# Altium footprint library Connector - SD.PcbLib: 3 footprints
Each footprint in its own frame and in the unit in brackets; x right, y up, seen from the top. Pads: shape width x height; smd on the part's side, far side on the other; paste and mask are expansions set on the pad; w line width, h text height; cw(c..) or ccw(c..) is an arc to the next point about the centre after c.
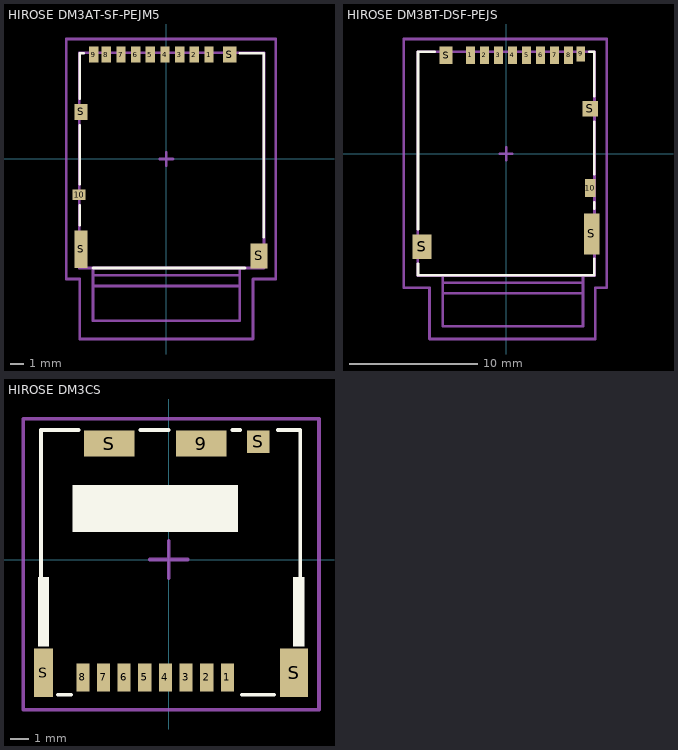
[diagram p0: the footprints below, top view; thin cyan lines are the x and y axes]

## HIROSE DM3AT-SF-PEJM5 [mm]
height 1.68
pads (14):
  rect 0.7x1.2 smd: 1(3.2,7.825) 2(2.1,7.825) 3(1,7.825) 4(-0.1,7.825) 5(-1.2,7.825) 6(-2.3,7.825) 7(-3.4,7.825) 8(-4.5,7.825) 9(-5.45,7.825)
  rect 1x0.8 smd: 10(-6.55,-2.675)
  rect 1x2.8 smd: S(-6.4,-6.775)
  rect 1x1.2 smd: S(-6.4,3.525) S(4.75,7.825)
  rect 1.3x1.9 smd: S(6.95,-7.275)
Top Overlay:
  lines w0.2: -6.5,-4.975 -6.5,-3.475 ; -6.5,-1.875 -6.5,2.525 ; -6.5,4.525 -6.5,7.925 -6.2,7.925 ; -5.5,-8.175 5.9,-8.175 ; 5.5,7.925 7.3,7.925 7.3,-5.875
Mechanical 13:
  lines w0.2: -5.5,-8.725 5.5,-8.725 ; -5.5,-8.175 -5.5,-9.525 ; 5.5,-8.175 5.5,-9.525 ; -5.5,-9.525 -5.5,-12.125 5.5,-12.125 5.5,-9.525 ; -5.5,-9.525 5.5,-9.525 ; -6.525,-8.175 -6.525,7.975 7.325,7.975 7.325,-8.175 -6.525,-8.175
Mechanical 15:
  lines w0.2: -0.5,0 0.5,0 ; 0,-0.5 0,0.5 ; -7.5,-9 -6.5,-9 -6.5,-13.5 6.5,-13.5 6.5,-9 8.2,-9 8.2,-8 8.2,9 -7.5,9 -7.5,-8.5 -7.5,-9
3D body "Hirose DM3AT-SF-PEJM5.STEP": height 1.68, standoff 0, extent -6.525,-8.175 7.325,7.975

## HIROSE DM3BT-DSF-PEJS [mm]
height 2.38
pads (14):
  rect 0.7x1.4 smd: 1(-2.8,7.725) 2(-1.7,7.725) 3(-0.6,7.725) 4(0.5,7.725) 5(1.6,7.725) 6(2.7,7.725) 7(3.8,7.725) 8(4.9,7.725)
  rect 0.7x1.2 smd: 9(5.85,7.825)
  rect 0.8x1.4 smd: 10(6.6,-2.675)
  rect 1.5x1.9 smd: S(-6.6,-7.275)
  rect 1x1.4 smd: S(-4.7,7.725)
  rect 1.2x1.2 smd: S(6.6,3.525)
  rect 1.2x3.2 smd: S(6.7,-6.275)
Top Overlay:
  lines w0.2: -6.9,-8.6 -6.9,-9.5 6.9,-9.5 6.9,-8.2 ; -6.9,-5.9 -6.9,8 -5.6,8 ; 6.5,8 6.9,8 6.9,4.5 ; 6.9,-4.3 6.9,-3.8 ; 6.9,-1.6 6.9,2.5
Mechanical 13:
  lines w0.2: -4.975,-10.1 6.025,-10.1 ; -4.975,-9.55 -4.975,-10.9 ; 6.025,-9.55 6.025,-10.9 ; -4.975,-10.9 -4.975,-13.5 6.025,-13.5 6.025,-10.9 ; -4.975,-10.9 6.025,-10.9 ; -6.925,-9.55 -6.925,8 6.925,8 6.925,-9.55 -6.925,-9.55
Mechanical 15:
  lines w0.2: -0.5,0 0.5,0 ; 0,-0.5 0,0.5 ; -8,-10.5 -8,9 7.9,9 7.9,-10.5 7,-10.5 7,-14.5 -6,-14.5 -6,-10.5 -8,-10.5
3D body "Hirose DM3BT-DSF-PEJS.STEP": height 1.83, standoff 0, extent -6.925,-9.55 6.925,8

## HIROSE DM3CS [mm]
height 1.83
pads (13):
  rect 0.7x1.5 smd: 1(3.125,-6.275) 2(2.025,-6.275) 3(0.925,-6.275) 4(-0.175,-6.275) 5(-1.275,-6.275) 6(-2.375,-6.275) 7(-3.475,-6.275) 8(-4.575,-6.275)
  rect 2.7x1.4 smd: 9(1.725,6.175) S(-3.175,6.175)
  rect 1x2.6 smd: S(-6.675,-6.025)
  rect 1.2x1.2 smd: S(4.775,6.275)
  rect 1.5x2.6 smd: S(6.675,-6.025)
Top Overlay:
  rectangle: 6.625,-4.625 7.225,-0.925
  rectangle: -6.975,-4.625 -6.375,-0.925
  rectangle: -5.125,1.475 3.675,3.975
  lines w0.2: -6.7,-4.4 -6.8,-4.3 -6.8,6.9 -4.8,6.9 ; -5.9,-7.2 -5.2,-7.2 ; -1.5,6.9 0,6.9 ; 3.4,6.9 3.8,6.9 ; 3.9,-7.2 5.6,-7.2 ; 5.8,6.9 7,6.9 7,-4.4
Mechanical 15:
  lines w0.2: -1,0 1,0 ; 0,-1 0,1 ; -7.75,-8 -7.75,7.5 8,7.5 8,-8 -7.75,-8
3D body "Hirose DM3CS-SF.STEP": height 1.93, standoff 0, extent -6.8,-7.2 7,6.9